# EAGLE library part EP4CE22E22C8N (library ICs)
FPGA, Cyclone IV, PLL, 79 I/O's, 472.5 MHz, 1.15 V to 1.25 V, QFP-144
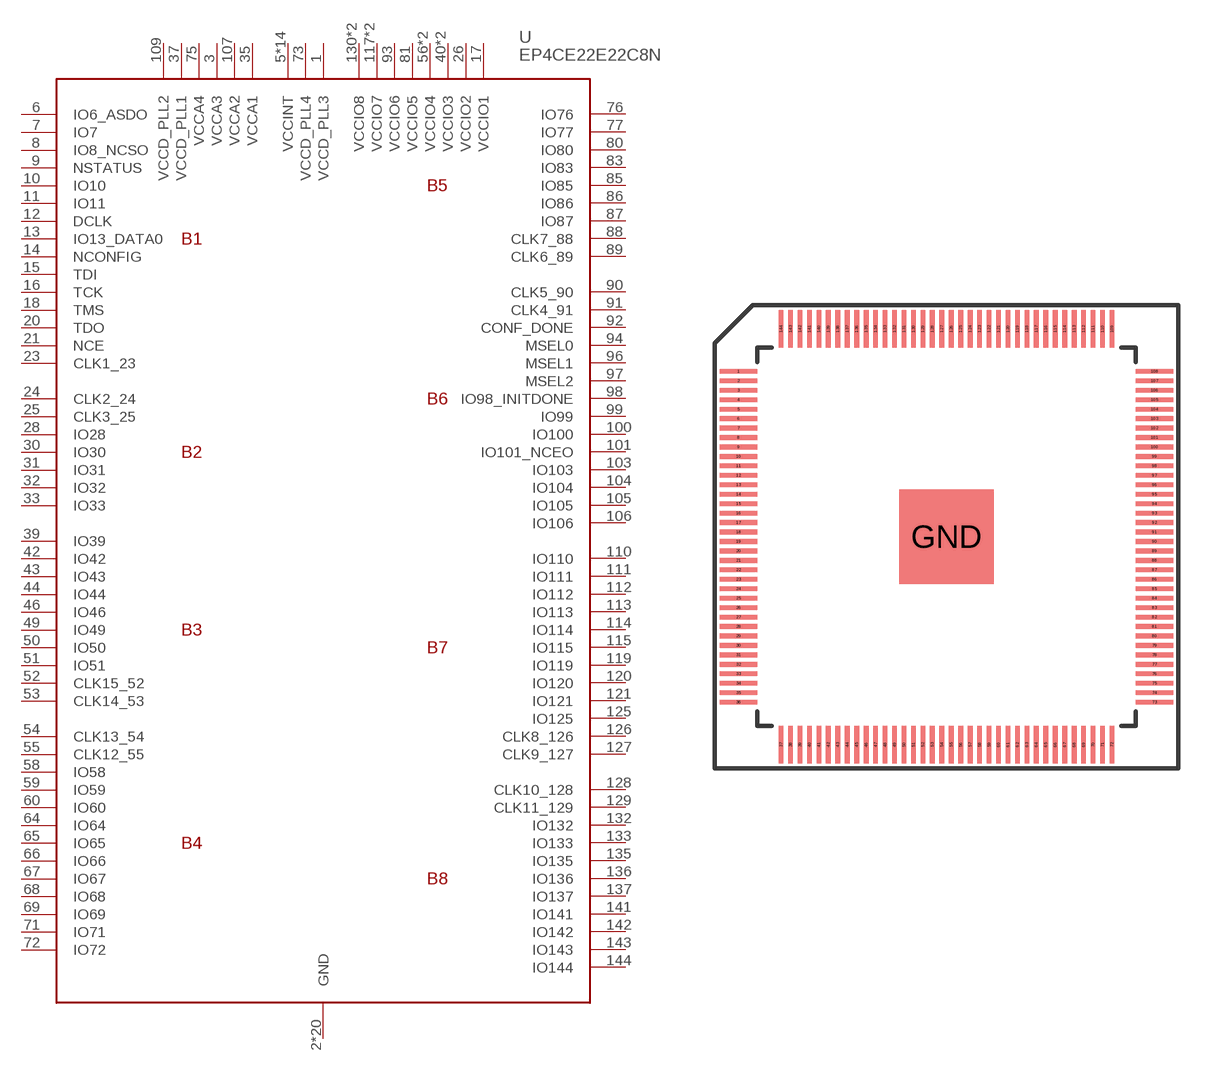
[diagram p161: symbol with the pads of QFP144_PP; footprint QFP144_PP]

Designator prefix U

## EP4CE22E22C8NPP (DIGIKEY: 544-3193-ND; PRICE_PER: 27.03; VALUE: EP4CE22E22C8N)  [QFP144_PP]
1  VCCD_PLL3
2  GND
3  VCCA3
4  GND
5  VCCINT
6  IO6_ASDO
7  IO7
8  IO8_NCSO
9  NSTATUS
10  IO10
11  IO11
12  DCLK
13  IO13_DATA0
14  NCONFIG
15  TDI
16  TCK
17  VCCIO1
18  TMS
19  GND
20  TDO
21  NCE
22  GND
23  CLK1_23
24  CLK2_24
25  CLK3_25
26  VCCIO2
27  GND
28  IO28
29  VCCINT
30  IO30
31  IO31
32  IO32
33  IO33
34  VCCINT
35  VCCA1
36  GND
37  VCCD_PLL1
38  VCCINT
39  IO39
40  VCCIO3
41  GND
42  IO42
43  IO43
44  IO44
45  VCCINT
46  IO46
47  VCCIO3
48  GND
49  IO49
50  IO50
51  IO51
52  CLK15_52
53  CLK14_53
54  CLK13_54
55  CLK12_55
56  VCCIO4
57  GND
58  IO58
59  IO59
60  IO60
61  VCCINT
62  VCCIO4
63  GND
64  IO64
65  IO65
66  IO66
67  IO67
68  IO68
69  IO69
70  VCCINT
71  IO71
72  IO72
73  VCCD_PLL4
74  GND
75  VCCA4
76  IO76
77  IO77
78  VCCINT
79  GND
80  IO80
81  VCCIO5
82  GND
83  IO83
84  VCCINT
85  IO85
86  IO86
87  IO87
88  CLK7_88
89  CLK6_89
90  CLK5_90
91  CLK4_91
92  CONF_DONE
93  VCCIO6
94  MSEL0
95  GND
96  MSEL1
97  MSEL2
98  IO98_INITDONE
99  IO99
100  IO100
101  IO101_NCEO
102  VCCINT
103  IO103
104  IO104
105  IO105
106  IO106
107  VCCA2
108  GND
109  VCCD_PLL2
110  IO110
111  IO111
112  IO112
113  IO113
114  IO114
115  IO115
116  VCCINT
117  VCCIO7
118  GND
119  IO119
120  IO120
121  IO121
122  VCCIO7
123  GND
124  VCCINT
125  IO125
126  CLK8_126
127  CLK9_127
128  CLK10_128
129  CLK11_129
130  VCCIO8
131  GND
132  IO132
133  IO133
134  VCCINT
135  IO135
136  IO136
137  IO137
138  VCCINT
139  VCCIO8
140  GND
141  IO141
142  IO142
143  IO143
144  IO144
GND  GND

## Footprint QFP144_PP (pad centres in mm)
smd 2 x 0.25: 1 -11,8.75; 2 -11,8.25; 3 -11,7.75; 4 -11,7.25; 5 -11,6.75; 6 -11,6.25; 7 -11,5.75; 8 -11,5.25; 9 -11,4.75; 10 -11,4.25; 11 -11,3.75; 12 -11,3.25; 13 -11,2.75; 14 -11,2.25; 15 -11,1.75; 16 -11,1.25; 17 -11,0.75; 18 -11,0.25; 19 -11,-0.25; 20 -11,-0.75; 21 -11,-1.25; 22 -11,-1.75; 23 -11,-2.25; 24 -11,-2.75; 25 -11,-3.25; 26 -11,-3.75; 27 -11,-4.25; 28 -11,-4.75; 29 -11,-5.25; 30 -11,-5.75; 31 -11,-6.25; 32 -11,-6.75; 33 -11,-7.25; 34 -11,-7.75; 35 -11,-8.25; 36 -11,-8.75; 73 11,-8.75; 74 11,-8.25; 75 11,-7.75; 76 11,-7.25; 77 11,-6.75; 78 11,-6.25; 79 11,-5.75; 80 11,-5.25; 81 11,-4.75; 82 11,-4.25; 83 11,-3.75; 84 11,-3.25; 85 11,-2.75; 86 11,-2.25; 87 11,-1.75; 88 11,-1.25; 89 11,-0.75; 90 11,-0.25; 91 11,0.25; 92 11,0.75; 93 11,1.25; 94 11,1.75; 95 11,2.25; 96 11,2.75; 97 11,3.25; 98 11,3.75; 99 11,4.25; 100 11,4.75; 101 11,5.25; 102 11,5.75; 103 11,6.25; 104 11,6.75; 105 11,7.25; 106 11,7.75; 107 11,8.25; 108 11,8.75
smd 0.25 x 2: 37 -8.75,-11; 38 -8.25,-11; 39 -7.75,-11; 40 -7.25,-11; 41 -6.75,-11; 42 -6.25,-11; 43 -5.75,-11; 44 -5.25,-11; 45 -4.75,-11; 46 -4.25,-11; 47 -3.75,-11; 48 -3.25,-11; 49 -2.75,-11; 50 -2.25,-11; 51 -1.75,-11; 52 -1.25,-11; 53 -0.75,-11; 54 -0.25,-11; 55 0.25,-11; 56 0.75,-11; 57 1.25,-11; 58 1.75,-11; 59 2.25,-11; 60 2.75,-11; 61 3.25,-11; 62 3.75,-11; 63 4.25,-11; 64 4.75,-11; 65 5.25,-11; 66 5.75,-11; 67 6.25,-11; 68 6.75,-11; 69 7.25,-11; 70 7.75,-11; 71 8.25,-11; 72 8.75,-11; 109 8.75,11; 110 8.25,11; 111 7.75,11; 112 7.25,11; 113 6.75,11; 114 6.25,11; 115 5.75,11; 116 5.25,11; 117 4.75,11; 118 4.25,11; 119 3.75,11; 120 3.25,11; 121 2.75,11; 122 2.25,11; 123 1.75,11; 124 1.25,11; 125 0.75,11; 126 0.25,11; 127 -0.25,11; 128 -0.75,11; 129 -1.25,11; 130 -1.75,11; 131 -2.25,11; 132 -2.75,11; 133 -3.25,11; 134 -3.75,11; 135 -4.25,11; 136 -4.75,11; 137 -5.25,11; 138 -5.75,11; 139 -6.25,11; 140 -6.75,11; 141 -7.25,11; 142 -7.75,11; 143 -8.25,11; 144 -8.75,11
smd 5 x 5: GND 0,0